# Altium schematic symbol library GRM0335C1H300GA01D.SchLib: 1 symbol
Pins are listed as number, name and electrical type; pins without a type are passive.

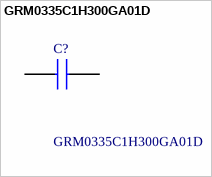
[diagram p0: symbol GRM0335C1H300GA01D]

## GRM0335C1H300GA01D
designator C?
Chip Capacitor value 300; Manufacturer_Name: Murata Electronics; Geometry.Height: 0.33mm; Farnell Part Number: *; Farnell Price/Stock: *; Manufacturer_Part_Number: GRM0335C1H300GA01D; Datasheet Link: https://search.murata.co.jp/Ceramy/image/img/A01X/G101/ENG/GRM0335C1H300GA01-01A.pdf
footprint GRM033D70J224ME01D
pins: 1, 2